# Altium footprint library 43650-0214.PcbLib: 1 footprints
Each footprint in its own frame and in the unit in brackets; x right, y up, seen from the top. Pads: shape width x height; smd on the part's side, far side on the other; paste and mask are expansions set on the pad; w line width, h text height; cw(c..) or ccw(c..) is an arc to the next point about the centre after c.
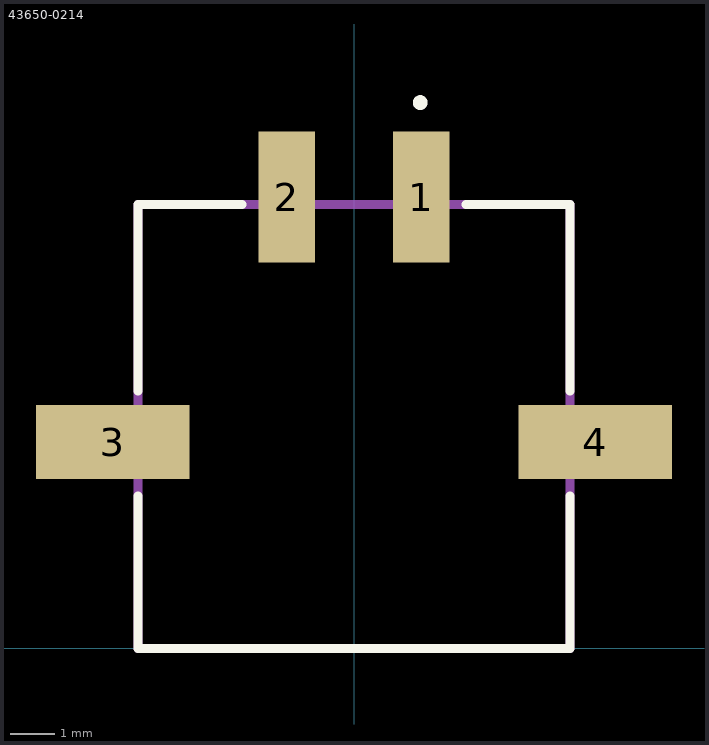
[diagram p0: the footprint, top view; thin cyan lines are the x and y axes]

## 43650-0214 [mm]
pads (4):
  rect 1.27x2.92 smd: 1(1.5,10.07) 2(-1.5,10.07)
  rect 3.43x1.65 smd: 3(-5.385,4.6) 4(5.385,4.6)
Top Overlay:
  circle w0.2: c1.476,12.178 r0.065
  lines w0.2: -4.825,3.4 -4.825,0 4.825,0 4.825,3.4 ; -4.825,5.747 -4.825,9.9 -2.494,9.9 ; 2.494,9.9 4.825,9.9 4.825,5.747
Mechanical 13:
  lines w0.2: -4.825,0 -4.825,9.9 4.825,9.9 4.825,0 -4.825,0
3D body "43650-0214.stp": height 5.68, standoff 0, extent -6.825,0.05 6.825,10.79